# EAGLE library part CORTEX_20PIN_DEBUG (library DougsLab)
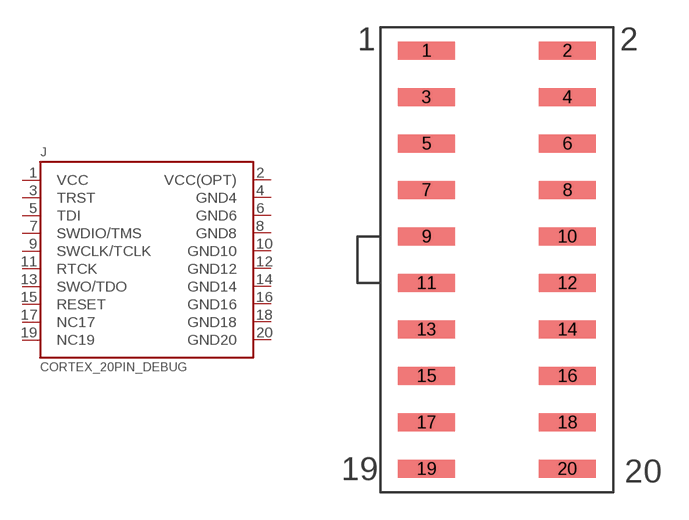
[diagram p4: symbol with the pads of 2X10_HEADER; footprint 2X10_HEADER]

Designator prefix J

## CORTEX_20PIN_DEBUG  [2X10_HEADER]
1  VCC
2  VCC(OPT)
3  TRST
4  GND4
5  TDI
6  GND6
7  SWDIO/TMS
8  GND8
9  SWCLK/TCLK
10  GND10
11  RTCK
12  GND12
13  SWO/TDO
14  GND14
15  RESET
16  GND16
17  NC17
18  GND18
19  NC19
20  GND20

## Footprint 2X10_HEADER (pad centres in mm)
smd 3.1 x 1: 1 -3.85,11.43; 2 3.85,11.43; 3 -3.85,8.89; 4 3.85,8.89; 5 -3.85,6.35; 6 3.85,6.35; 7 -3.85,3.81; 8 3.85,3.81; 9 -3.85,1.27; 10 3.85,1.27; 11 -3.85,-1.27; 12 3.85,-1.27; 13 -3.85,-3.81; 14 3.85,-3.81; 15 -3.85,-6.35; 16 3.85,-6.35; 17 -3.85,-8.89; 18 3.85,-8.89; 19 -3.85,-11.43; 20 3.85,-11.43